# Altium integrated library Linear Technology Power Management Switching Regulator LT1074-LT8705.IntLib: 2252 symbols (part 94 of 148)
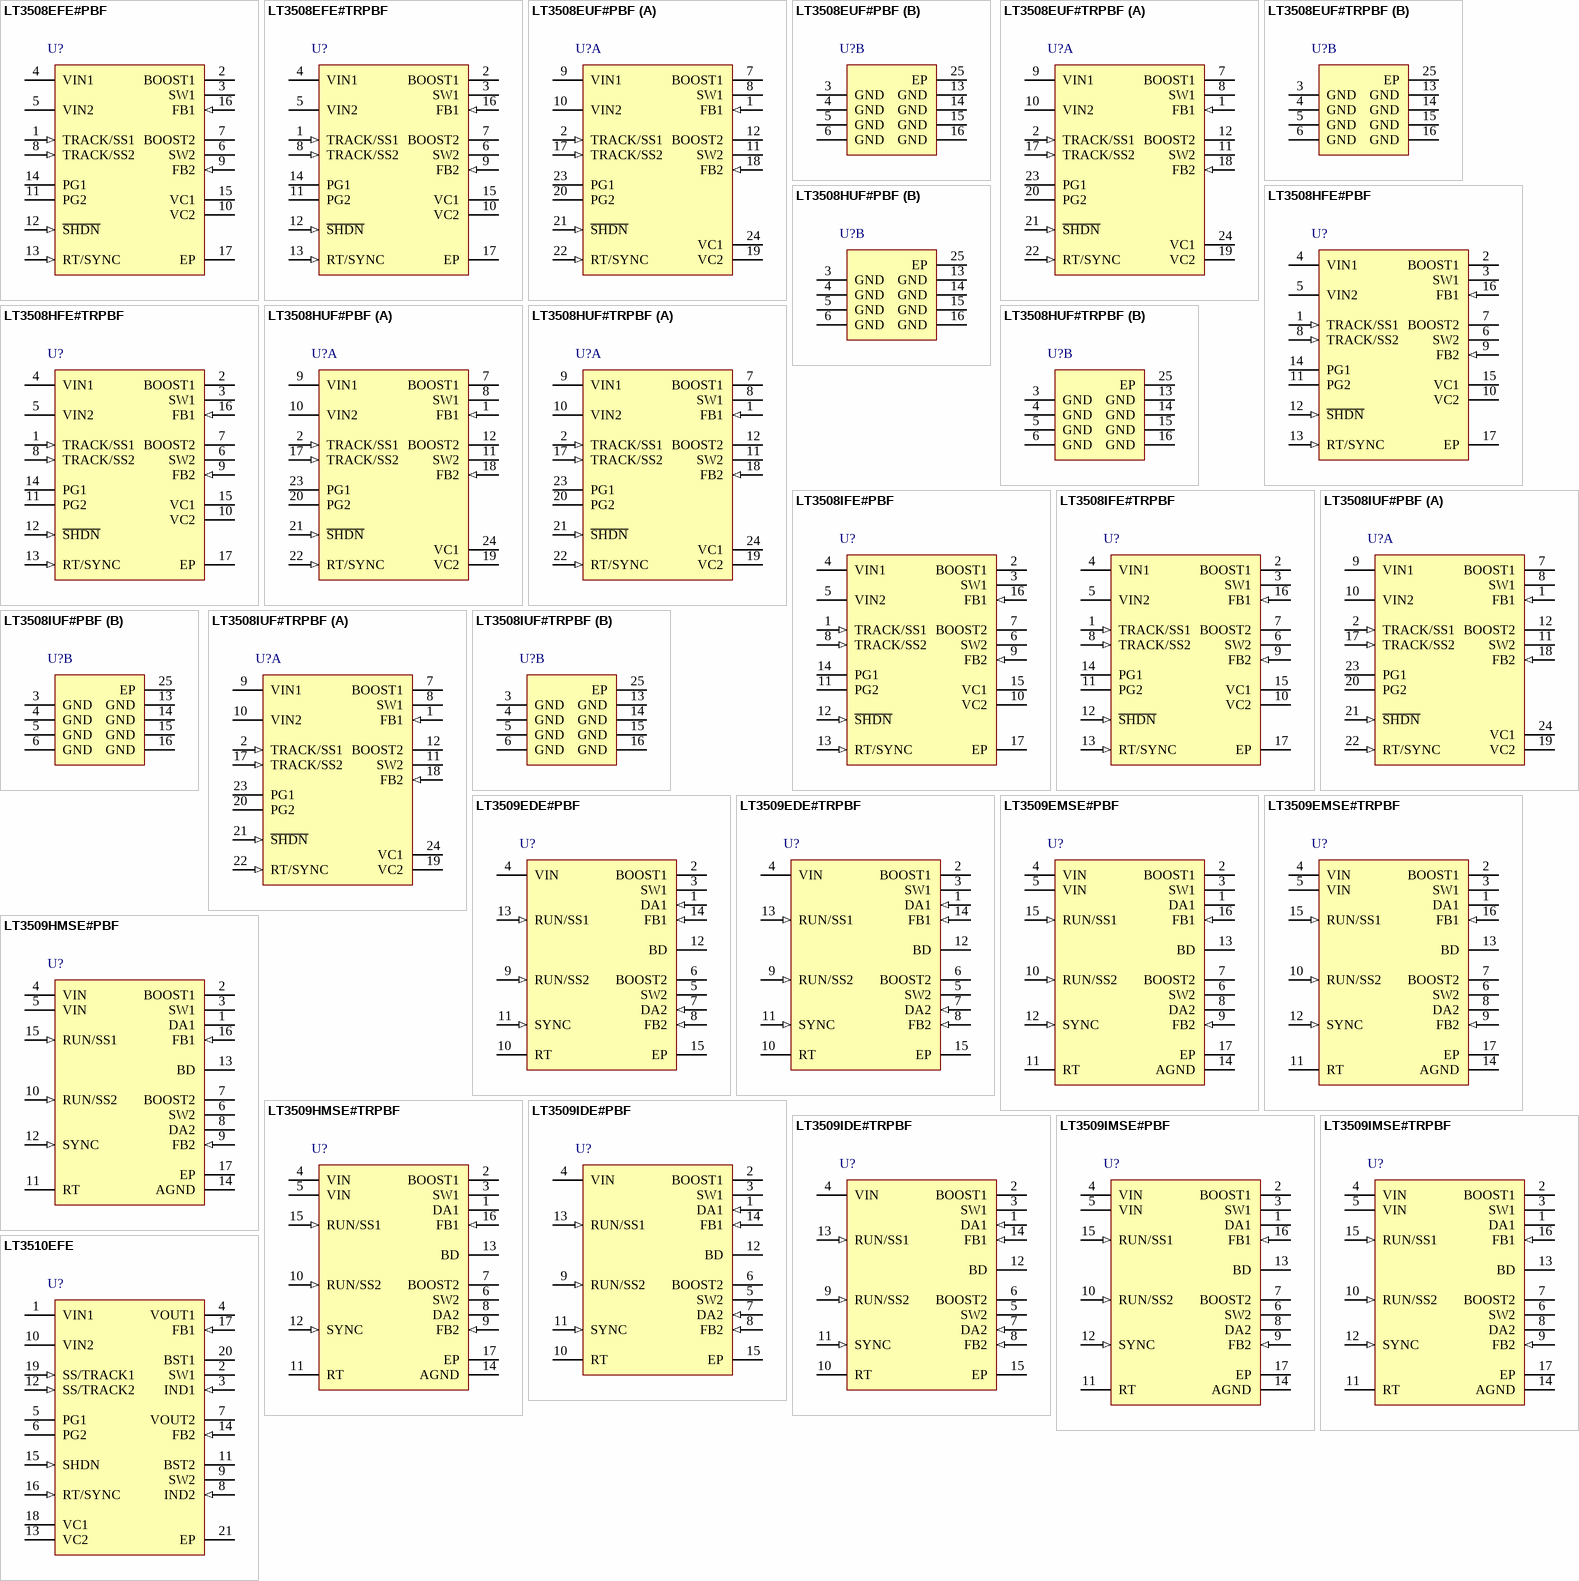
[diagram p164: symbols LT3508EFE#PBF to LT3510EFE]

## LT3509IMSE#TRPBF
designator U?
Dual 36 V, 700 mA Step-Down Regulator, 16-pin SOP (MSE-16-EDP), -40 to 125 degC, Pb-Free, Tape and Reel; Manufacturer: Linear Technology; PartNumber: LT3509IMSE#TRPBF; Frequency Adjust Range: 300kHz - 2.2MHz; Number of Outputs: 2; Over Voltage Protection(V): 60; DatasheetVersion: Rev. C; PackageVersion: Rev. F, 05/2013; PackageReference: MSE-16; PackageDescription: 16-Pin Plastic MSOP, Exposed Die Pad, Body 4.039 x 3 mm, Pitch 0.5 mm; Supplier 1: Digi-Key; Supplier Part Number 1: LT3509IMSE#TRPBF-ND; Supplier 2: Newark; Supplier Part Number 2: 46P5739; Packing: Tape and Reel; RoHS: TRUE; Mounting Technology: Surface Mount; ComponentLink1Description: Manufacturer URL; ComponentLink1URL: http://www.linear.com/; ComponentLink2Description: Datasheet; ComponentLink2URL: http://cds.linear.com/docs/en/datasheet/3509fc.pdf; ComponentLink3Description: Package Specification; ComponentLink3URL: http://cds.linear.com/docs/en/packaging/05081667_F_MSE16.pdf
footprint LT-MSE-16-EDP_N (SOP, 16-Leads, Body 4.1x3.1mm, Pitch 0.5mm, Thermal Pad 2.95x1.76mm, IPC Medium Density)
footprint LT-MSE-16-EDP_L (SOP, 16-Leads, Body 4.1x3.1mm, Pitch 0.5mm, Thermal Pad 2.95x1.76mm, IPC High Density)
footprint LT-MSE-16-EDP_M (SOP, 16-Leads, Body 4.1x3.1mm, Pitch 0.5mm, Thermal Pad 2.95x1.76mm, IPC Low Density)
pins: 1 DA1 "The DA pins are the anode connections for the catch diodes. These are connected internally to the exposed ground pad by current sensing resistors.", 2 BOOST1 "The BOOST pins are used to dynamically boost the power transistor base above VIN to minimize the voltage drop and power loss in the switch. These should be tied to the associated switch pins through the boost capacitors.", 3 SW1 (power) "The SW pins are the internal power switch outputs. These should be connected to the associated inductors, catch diode cathodes, and the boost capacitors.", 4 VIN (power) "The VIN pins supply power to the internal power switches and control circuitry. In the MSE package the VIN pins must be tied together. The input capacitor should be placed as close as possible to the supply pins.", 5 VIN (power) "The VIN pins supply power to the internal power switches and control circuitry. In the MSE package the VIN pins must be tied together. The input capacitor should be placed as close as possible to the supply pins.", 6 SW2 (power) "The SW pins are the internal power switch outputs. These should be connected to the associated inductors, catch diode cathodes, and the boost capacitors.", 7 BOOST2 "The BOOST pins are used to dynamically boost the power transistor base above VIN to minimize the voltage drop and power loss in the switch. These should be tied to the associated switch pins through the boost capacitors.", 8 DA2 "The DA pins are the anode connections for the catch diodes. These are connected internally to the exposed ground pad by current sensing resistors.", 9 FB2 (in) "The FB pins are used to set the regulated output voltage relative to the internal reference. These pins should be connected to a resistor divider from the regulated output such that the FB pin is at 0.8V when the output is (See Datasheet)", 10 RUN/SS2 (in) "The RUN/SS pins enable the associated regulator channel. If both pins are pulled to ground, the device will shut-down to a low power state. In the range 0.8V to 2V, the regulators are enabled but the peak switch current and (See Datasheet)", 11 RT "The RT pin is used to set the internal oscillator frequency. A 40.2k resistor from RT to ground results in a nominal frequency of 1MHz.", 12 SYNC (in) "The SYNC pin allows the switching frequency to be synchronized to a external clock. Choose RT resistor to set a free-run frequency at least 12% less than the external clock frequency for correct operation.", 13 BD (power) "The BD pin is common anode connection of the internal Schottky boost diodes. This provides the power for charging the BOOST capacitors. It should be locally bypassed for best performance.", 14 AGND (power) "This is the connected to the ground connection of the chip and may be used as a separate return for the low current control side components. It should not be used as the only ground connection or as a connection return for (See Datasheet)", 15 RUN/SS1 (in) "The RUN/SS pins enable the associated regulator channel. If both pins are pulled to ground, the device will shut-down to a low power state. In the range 0.8V to 2V, the regulators are enabled but the peak switch current and (See Datasheet)", 16 FB1 (in) "The FB pins are used to set the regulated output voltage relative to the internal reference. These pins should be connected to a resistor divider from the regulated output such that the FB pin is at 0.8V when the output is (See Datasheet)", 17 EP (power) "GND. This is the reference and supply ground for the regulator. The exposed pad must be soldered to the PCB and electrically connected to supply ground. Use a large ground plane and thermal vias to optimize thermal (See Datasheet)"

## LT3510EFE
designator U?
Monolithic Dual Tracking 2 A Step-Down Switching Regulator, 20-pin SOP (FE-20-EPV-CB), -40 to 125 degC; Manufacturer: Linear Technology; PartNumber: LT3510EFE; Frequency Adjust Range: 250kHz - 1.5MHz; Number of Outputs: 2; DatasheetVersion: Rev. E; PackageVersion: Rev. I, 05/2011; PackageReference: FE-20; PackageDescription: 20-Pin Plastic TSSOP, Body 6.5 x 4.4 mm, Pitch 0.65 mm; RoHS: FALSE; Mounting Technology: Surface Mount; ComponentLink1Description: Manufacturer URL; ComponentLink1URL: http://www.linear.com/; ComponentLink2Description: Datasheet; ComponentLink2URL: http://cds.linear.com/docs/en/datasheet/3510fe.pdf; ComponentLink3Description: Package Specification; ComponentLink3URL: http://cds.linear.com/docs/en/packaging/05081663__J_FE20(CB).pdf
footprint LT-FE-20-EPV-CB_N (SOP, 20-Leads, Body 6.6x4.5mm, Pitch 0.65mm, Thermal Pad 3.86x2.74mm, IPC Medium Density)
footprint LT-FE-20-EPV-CB_L (SOP, 20-Leads, Body 6.6x4.5mm, Pitch 0.65mm, Thermal Pad 3.86x2.74mm, IPC High Density)
footprint LT-FE-20-EPV-CB_M (SOP, 20-Leads, Body 6.6x4.5mm, Pitch 0.65mm, Thermal Pad 3.86x2.74mm, IPC Low Density)
pins: 1 VIN1 (power) "The VIN1 pin powers the internal control circuitry for both channels and is monitored by the undervoltage lockout comparator. The VIN1 pin is also connected to the collector of channel 1’s on-chip power NPN switch. Th(See Datasheet)", 2 SW1 "The SW pin is the emitter of the onchip power NPN. At switch-off, the inductor will drive this pin below ground with a high dV/dt. An external Schottky catch diode to ground, close to the SW pin and respective VIN decoupling (See Datasheet)", 3 IND1 (in) "The IND pin is the input to the on-chip sense resistor that measures current flowing in the inductor. When the current in the resistor exceeds the current dictated by the VC pin, the SW latch is held in reset, disabling the (See Datasheet)", 4 VOUT1 (power) "The VOUT pin is the output to the on-chip sense resistor that measures current flowing in the inductor. When the current in the resistor exceeds the current dictated by the VC pin, the SW latch is held in reset, disabling (See Datasheet)", 5 PG1 (oc) "The power good pin is an open-collector output that sinks current when the feedback falls below 90% of its nominal regulating voltage. For VIN1 above 1V, its output state remains true, although during shutdown, VIN1 (See Datasheet)", 6 PG2 (oc) "The power good pin is an open-collector output that sinks current when the feedback falls below 90% of its nominal regulating voltage. For VIN1 above 1V, its output state remains true, although during shutdown, VIN1 (See Datasheet)", 7 VOUT2 (power) "The VOUT pin is the output to the on-chip sense resistor that measures current flowing in the inductor. When the current in the resistor exceeds the current dictated by the VC pin, the SW latch is held in reset, disabling (See Datasheet)", 8 IND2 (in) "The IND pin is the input to the on-chip sense resistor that measures current flowing in the inductor. When the current in the resistor exceeds the current dictated by the VC pin, the SW latch is held in reset, disabling the (See Datasheet)", 9 SW2 "The SW pin is the emitter of the onchip power NPN. At switch-off, the inductor will drive this pin below ground with a high dV/dt. An external Schottky catch diode to ground, close to the SW pin and respective VIN decoupling (See Datasheet)", 10 VIN2 (power) "The VIN2 pin is the collector of channel 2’s on-chip power NPN switch. This pin is independent of VIN1 and may be connected to the same or a separate supply. In either case, high dI/dt edges are present and decoupling t(See Datasheet)", 11 BST2 "The BST pin provides a higher than VIN base drive to the power NPN to ensure a low switch drop. A comparator to VIN imposes a minimum off-time on the SW pin if the BST pin voltage drops too low. Forcing a SW off-time allows (See Datasheet)", 12 SS/TRACK2 (in) "The SS1/2 pins control the softstart and sequence of their respective outputs. A single capacitor from the SS pin to ground determines the output ramp rate. For soft-start and output tracking/sequencing details, see the (See Datasheet)", 13 VC2 "The VC pin is the output of the error amplifier and the input to the peak switch current  comparator. It is normally used for frequency compensation, but can also be used as a current clamp or control loop override. If the (See Datasheet)", 14 FB2 (in) "The FB pin is the negative input to the error amplifier. The output switches regulate this pin to 0.8V, with respect to the exposed ground pad. Bias current flows out of the FB pin.", 15 SHDN (in) "The shutdown pin is used to turn off both channels and control circuitry to reduce quiescent current to a typical value of 9uA. The accurate 1.28V threshold and input current hysteresis can be used as an undervoltage (See Datasheet)", 16 RT/SYNC (in) "This RT/SYNC pin provides two modes of setting the constant switch frequency.", 17 FB1 (in) "The FB pin is the negative input to the error amplifier. The output switches regulate this pin to 0.8V, with respect to the exposed ground pad. Bias current flows out of the FB pin.", 18 VC1 "The VC pin is the output of the error amplifier and the input to the peak switch current  comparator. It is normally used for frequency compensation, but can also be used as a current clamp or control loop override. If the (See Datasheet)", 19 SS/TRACK1 (in) "The SS1/2 pins control the softstart and sequence of their respective outputs. A single capacitor from the SS pin to ground determines the output ramp rate. For soft-start and output tracking/sequencing details, see the (See Datasheet)", 20 BST1 "The BST pin provides a higher than VIN base drive to the power NPN to ensure a low switch drop. A comparator to VIN imposes a minimum off-time on the SW pin if the BST pin voltage drops too low. Forcing a SW off-time allows (See Datasheet)", 21 EP (power) "GND. The Exposed Pad GND pin is the only ground connection for the device. The Exposed Pad should be soldered to a large copper area to reduce thermal resistance. The GND pin is common to both channels and also serves as (See Datasheet)"

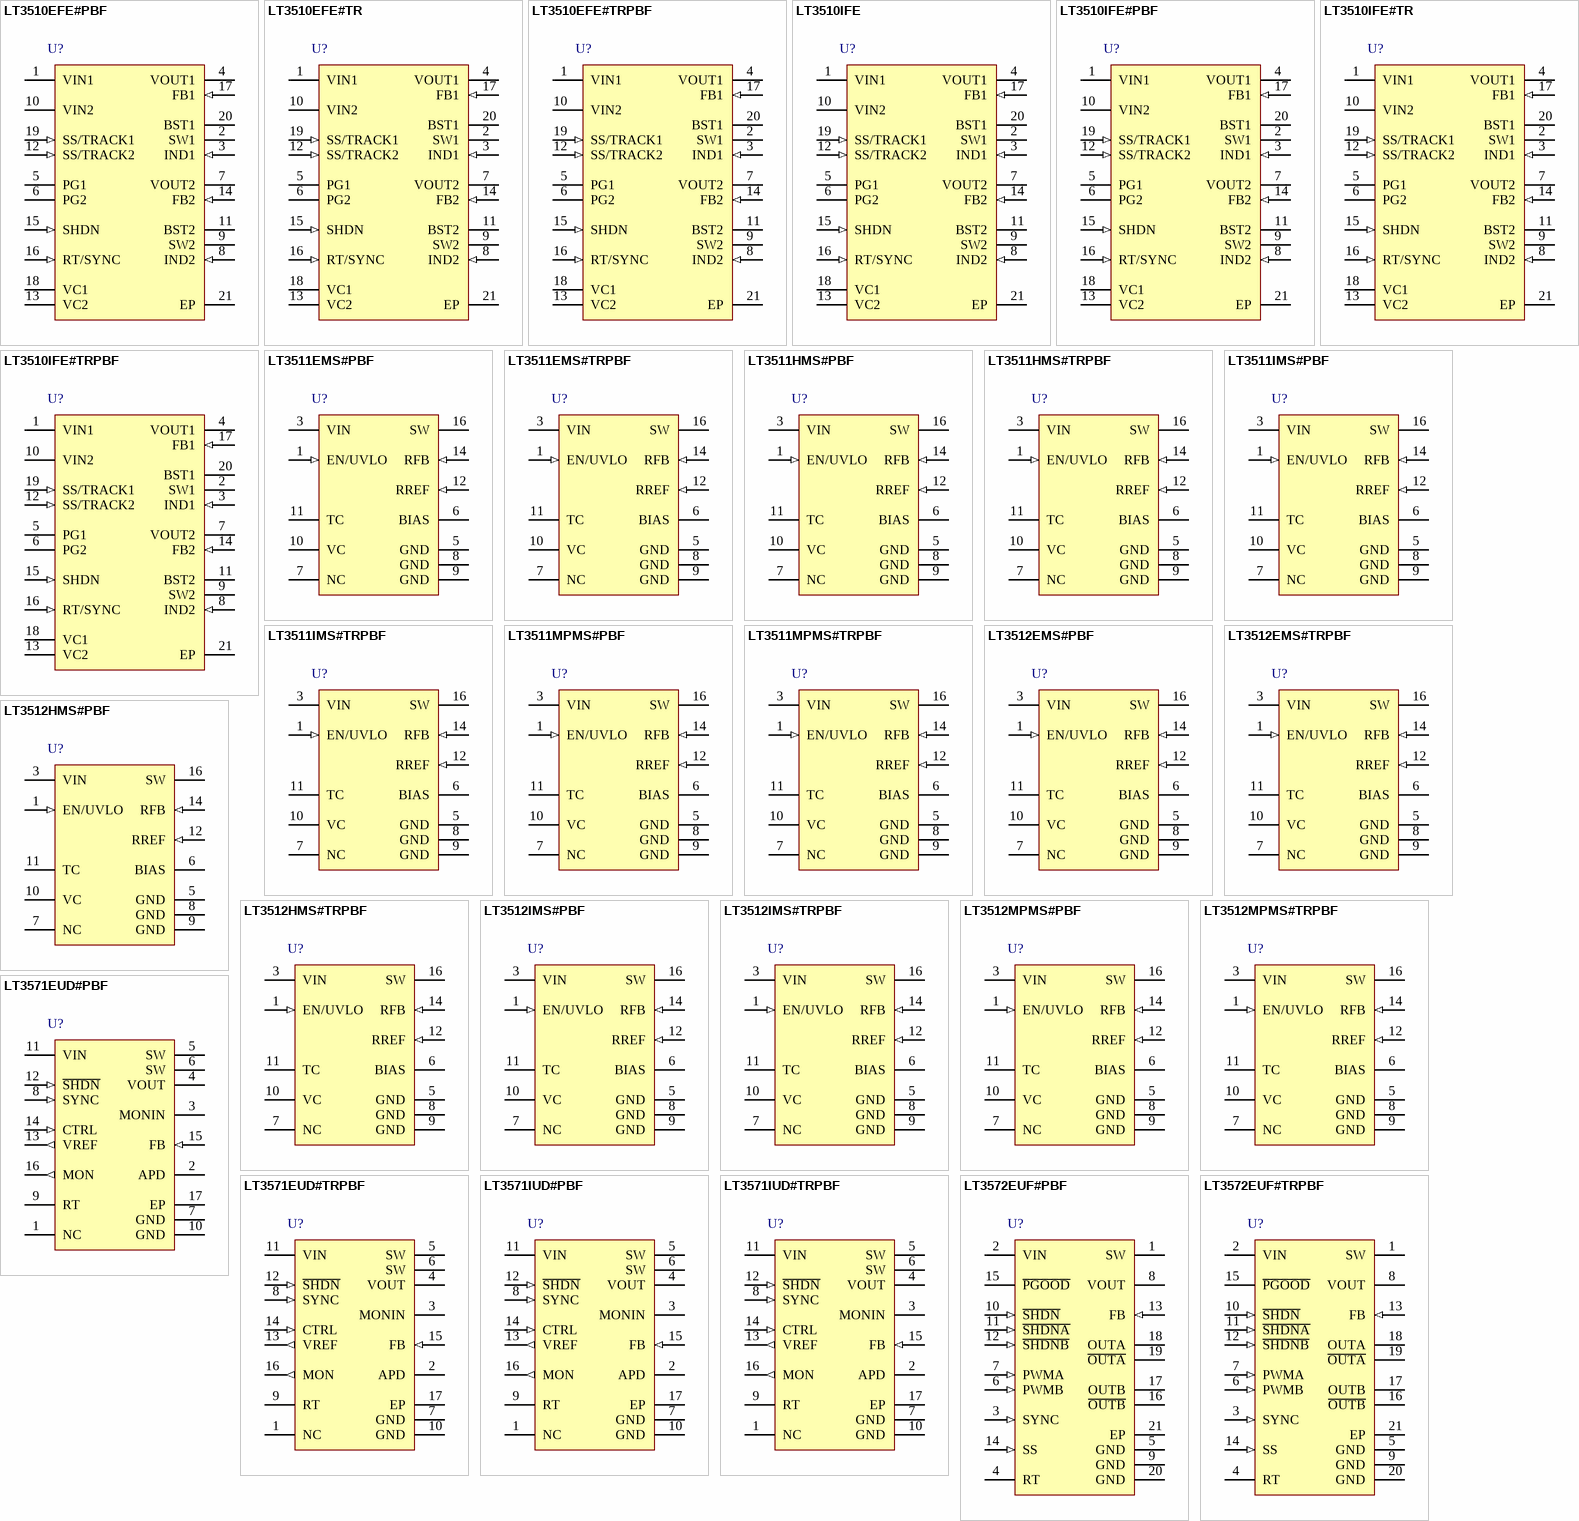
[diagram p47: symbols LT3510EFE#PBF to LT3572EUF#TRPBF]

## LT3510EFE#PBF
designator U?
Monolithic Dual Tracking 2 A Step-Down Switching Regulator, 20-pin SOP (FE-20-EPV-CB), -40 to 125 degC, Pb-Free; Manufacturer: Linear Technology; PartNumber: LT3510EFE#PBF; Frequency Adjust Range: 250kHz - 1.5MHz; Number of Outputs: 2; DatasheetVersion: Rev. E; PackageVersion: Rev. I, 05/2011; PackageReference: FE-20; PackageDescription: 20-Pin Plastic TSSOP, Body 6.5 x 4.4 mm, Pitch 0.65 mm; Supplier 1: Digi-Key; Supplier Part Number 1: LT3510EFE#PBF-ND; Supplier 2: Farnell; Supplier Part Number 2: 1663572; Supplier 3: Newark; Supplier Part Number 3: 58M1039; RoHS: TRUE; Mounting Technology: Surface Mount; ComponentLink1Description: Manufacturer URL; ComponentLink1URL: http://www.linear.com/; ComponentLink2Description: Datasheet; ComponentLink2URL: http://cds.linear.com/docs/en/datasheet/3510fe.pdf; ComponentLink3Description: Package Specification; ComponentLink3URL: http://cds.linear.com/docs/en/packaging/05081663__J_FE20(CB).pdf
footprint LT-FE-20-EPV-CB_N (SOP, 20-Leads, Body 6.6x4.5mm, Pitch 0.65mm, Thermal Pad 3.86x2.74mm, IPC Medium Density)
footprint LT-FE-20-EPV-CB_L (SOP, 20-Leads, Body 6.6x4.5mm, Pitch 0.65mm, Thermal Pad 3.86x2.74mm, IPC High Density)
footprint LT-FE-20-EPV-CB_M (SOP, 20-Leads, Body 6.6x4.5mm, Pitch 0.65mm, Thermal Pad 3.86x2.74mm, IPC Low Density)
pins: 1 VIN1 (power) "The VIN1 pin powers the internal control circuitry for both channels and is monitored by the undervoltage lockout comparator. The VIN1 pin is also connected to the collector of channel 1’s on-chip power NPN switch. Th(See Datasheet)", 2 SW1 "The SW pin is the emitter of the onchip power NPN. At switch-off, the inductor will drive this pin below ground with a high dV/dt. An external Schottky catch diode to ground, close to the SW pin and respective VIN decoupling (See Datasheet)", 3 IND1 (in) "The IND pin is the input to the on-chip sense resistor that measures current flowing in the inductor. When the current in the resistor exceeds the current dictated by the VC pin, the SW latch is held in reset, disabling the (See Datasheet)", 4 VOUT1 (power) "The VOUT pin is the output to the on-chip sense resistor that measures current flowing in the inductor. When the current in the resistor exceeds the current dictated by the VC pin, the SW latch is held in reset, disabling (See Datasheet)", 5 PG1 (oc) "The power good pin is an open-collector output that sinks current when the feedback falls below 90% of its nominal regulating voltage. For VIN1 above 1V, its output state remains true, although during shutdown, VIN1 (See Datasheet)", 6 PG2 (oc) "The power good pin is an open-collector output that sinks current when the feedback falls below 90% of its nominal regulating voltage. For VIN1 above 1V, its output state remains true, although during shutdown, VIN1 (See Datasheet)", 7 VOUT2 (power) "The VOUT pin is the output to the on-chip sense resistor that measures current flowing in the inductor. When the current in the resistor exceeds the current dictated by the VC pin, the SW latch is held in reset, disabling (See Datasheet)", 8 IND2 (in) "The IND pin is the input to the on-chip sense resistor that measures current flowing in the inductor. When the current in the resistor exceeds the current dictated by the VC pin, the SW latch is held in reset, disabling the (See Datasheet)", 9 SW2 "The SW pin is the emitter of the onchip power NPN. At switch-off, the inductor will drive this pin below ground with a high dV/dt. An external Schottky catch diode to ground, close to the SW pin and respective VIN decoupling (See Datasheet)", 10 VIN2 (power) "The VIN2 pin is the collector of channel 2’s on-chip power NPN switch. This pin is independent of VIN1 and may be connected to the same or a separate supply. In either case, high dI/dt edges are present and decoupling t(See Datasheet)", 11 BST2 "The BST pin provides a higher than VIN base drive to the power NPN to ensure a low switch drop. A comparator to VIN imposes a minimum off-time on the SW pin if the BST pin voltage drops too low. Forcing a SW off-time allows (See Datasheet)", 12 SS/TRACK2 (in) "The SS1/2 pins control the softstart and sequence of their respective outputs. A single capacitor from the SS pin to ground determines the output ramp rate. For soft-start and output tracking/sequencing details, see the (See Datasheet)", 13 VC2 "The VC pin is the output of the error amplifier and the input to the peak switch current  comparator. It is normally used for frequency compensation, but can also be used as a current clamp or control loop override. If the (See Datasheet)", 14 FB2 (in) "The FB pin is the negative input to the error amplifier. The output switches regulate this pin to 0.8V, with respect to the exposed ground pad. Bias current flows out of the FB pin.", 15 SHDN (in) "The shutdown pin is used to turn off both channels and control circuitry to reduce quiescent current to a typical value of 9uA. The accurate 1.28V threshold and input current hysteresis can be used as an undervoltage (See Datasheet)", 16 RT/SYNC (in) "This RT/SYNC pin provides two modes of setting the constant switch frequency.", 17 FB1 (in) "The FB pin is the negative input to the error amplifier. The output switches regulate this pin to 0.8V, with respect to the exposed ground pad. Bias current flows out of the FB pin.", 18 VC1 "The VC pin is the output of the error amplifier and the input to the peak switch current  comparator. It is normally used for frequency compensation, but can also be used as a current clamp or control loop override. If the (See Datasheet)", 19 SS/TRACK1 (in) "The SS1/2 pins control the softstart and sequence of their respective outputs. A single capacitor from the SS pin to ground determines the output ramp rate. For soft-start and output tracking/sequencing details, see the (See Datasheet)", 20 BST1 "The BST pin provides a higher than VIN base drive to the power NPN to ensure a low switch drop. A comparator to VIN imposes a minimum off-time on the SW pin if the BST pin voltage drops too low. Forcing a SW off-time allows (See Datasheet)", 21 EP (power) "GND. The Exposed Pad GND pin is the only ground connection for the device. The Exposed Pad should be soldered to a large copper area to reduce thermal resistance. The GND pin is common to both channels and also serves as (See Datasheet)"

## LT3510EFE#TR
designator U?
Monolithic Dual Tracking 2 A Step-Down Switching Regulator, 20-pin SOP (FE-20-EPV-CB), -40 to 125 degC, Tape and Reel; Manufacturer: Linear Technology; PartNumber: LT3510EFE#TR; Frequency Adjust Range: 250kHz - 1.5MHz; Number of Outputs: 2; DatasheetVersion: Rev. E; PackageVersion: Rev. I, 05/2011; PackageReference: FE-20; PackageDescription: 20-Pin Plastic TSSOP, Body 6.5 x 4.4 mm, Pitch 0.65 mm; Packing: Tape and Reel; RoHS: FALSE; Mounting Technology: Surface Mount; ComponentLink1Description: Manufacturer URL; ComponentLink1URL: http://www.linear.com/; ComponentLink2Description: Datasheet; ComponentLink2URL: http://cds.linear.com/docs/en/datasheet/3510fe.pdf; ComponentLink3Description: Package Specification; ComponentLink3URL: http://cds.linear.com/docs/en/packaging/05081663__J_FE20(CB).pdf
footprint LT-FE-20-EPV-CB_N (SOP, 20-Leads, Body 6.6x4.5mm, Pitch 0.65mm, Thermal Pad 3.86x2.74mm, IPC Medium Density)
footprint LT-FE-20-EPV-CB_L (SOP, 20-Leads, Body 6.6x4.5mm, Pitch 0.65mm, Thermal Pad 3.86x2.74mm, IPC High Density)
footprint LT-FE-20-EPV-CB_M (SOP, 20-Leads, Body 6.6x4.5mm, Pitch 0.65mm, Thermal Pad 3.86x2.74mm, IPC Low Density)
pins: 1 VIN1 (power) "The VIN1 pin powers the internal control circuitry for both channels and is monitored by the undervoltage lockout comparator. The VIN1 pin is also connected to the collector of channel 1’s on-chip power NPN switch. Th(See Datasheet)", 2 SW1 "The SW pin is the emitter of the onchip power NPN. At switch-off, the inductor will drive this pin below ground with a high dV/dt. An external Schottky catch diode to ground, close to the SW pin and respective VIN decoupling (See Datasheet)", 3 IND1 (in) "The IND pin is the input to the on-chip sense resistor that measures current flowing in the inductor. When the current in the resistor exceeds the current dictated by the VC pin, the SW latch is held in reset, disabling the (See Datasheet)", 4 VOUT1 (power) "The VOUT pin is the output to the on-chip sense resistor that measures current flowing in the inductor. When the current in the resistor exceeds the current dictated by the VC pin, the SW latch is held in reset, disabling (See Datasheet)", 5 PG1 (oc) "The power good pin is an open-collector output that sinks current when the feedback falls below 90% of its nominal regulating voltage. For VIN1 above 1V, its output state remains true, although during shutdown, VIN1 (See Datasheet)", 6 PG2 (oc) "The power good pin is an open-collector output that sinks current when the feedback falls below 90% of its nominal regulating voltage. For VIN1 above 1V, its output state remains true, although during shutdown, VIN1 (See Datasheet)", 7 VOUT2 (power) "The VOUT pin is the output to the on-chip sense resistor that measures current flowing in the inductor. When the current in the resistor exceeds the current dictated by the VC pin, the SW latch is held in reset, disabling (See Datasheet)", 8 IND2 (in) "The IND pin is the input to the on-chip sense resistor that measures current flowing in the inductor. When the current in the resistor exceeds the current dictated by the VC pin, the SW latch is held in reset, disabling the (See Datasheet)", 9 SW2 "The SW pin is the emitter of the onchip power NPN. At switch-off, the inductor will drive this pin below ground with a high dV/dt. An external Schottky catch diode to ground, close to the SW pin and respective VIN decoupling (See Datasheet)", 10 VIN2 (power) "The VIN2 pin is the collector of channel 2’s on-chip power NPN switch. This pin is independent of VIN1 and may be connected to the same or a separate supply. In either case, high dI/dt edges are present and decoupling t(See Datasheet)", 11 BST2 "The BST pin provides a higher than VIN base drive to the power NPN to ensure a low switch drop. A comparator to VIN imposes a minimum off-time on the SW pin if the BST pin voltage drops too low. Forcing a SW off-time allows (See Datasheet)", 12 SS/TRACK2 (in) "The SS1/2 pins control the softstart and sequence of their respective outputs. A single capacitor from the SS pin to ground determines the output ramp rate. For soft-start and output tracking/sequencing details, see the (See Datasheet)", 13 VC2 "The VC pin is the output of the error amplifier and the input to the peak switch current  comparator. It is normally used for frequency compensation, but can also be used as a current clamp or control loop override. If the (See Datasheet)", 14 FB2 (in) "The FB pin is the negative input to the error amplifier. The output switches regulate this pin to 0.8V, with respect to the exposed ground pad. Bias current flows out of the FB pin.", 15 SHDN (in) "The shutdown pin is used to turn off both channels and control circuitry to reduce quiescent current to a typical value of 9uA. The accurate 1.28V threshold and input current hysteresis can be used as an undervoltage (See Datasheet)", 16 RT/SYNC (in) "This RT/SYNC pin provides two modes of setting the constant switch frequency.", 17 FB1 (in) "The FB pin is the negative input to the error amplifier. The output switches regulate this pin to 0.8V, with respect to the exposed ground pad. Bias current flows out of the FB pin.", 18 VC1 "The VC pin is the output of the error amplifier and the input to the peak switch current  comparator. It is normally used for frequency compensation, but can also be used as a current clamp or control loop override. If the (See Datasheet)", 19 SS/TRACK1 (in) "The SS1/2 pins control the softstart and sequence of their respective outputs. A single capacitor from the SS pin to ground determines the output ramp rate. For soft-start and output tracking/sequencing details, see the (See Datasheet)", 20 BST1 "The BST pin provides a higher than VIN base drive to the power NPN to ensure a low switch drop. A comparator to VIN imposes a minimum off-time on the SW pin if the BST pin voltage drops too low. Forcing a SW off-time allows (See Datasheet)", 21 EP (power) "GND. The Exposed Pad GND pin is the only ground connection for the device. The Exposed Pad should be soldered to a large copper area to reduce thermal resistance. The GND pin is common to both channels and also serves as (See Datasheet)"

## LT3510EFE#TRPBF
designator U?
Monolithic Dual Tracking 2 A Step-Down Switching Regulator, 20-pin SOP (FE-20-EPV-CB), -40 to 125 degC, Pb-Free, Tape and Reel; Manufacturer: Linear Technology; PartNumber: LT3510EFE#TRPBF; Frequency Adjust Range: 250kHz - 1.5MHz; Number of Outputs: 2; DatasheetVersion: Rev. E; PackageVersion: Rev. I, 05/2011; PackageReference: FE-20; PackageDescription: 20-Pin Plastic TSSOP, Body 6.5 x 4.4 mm, Pitch 0.65 mm; Supplier 1: Digi-Key; Supplier Part Number 1: LT3510EFE#TRPBF-ND; Supplier 2: Newark; Supplier Part Number 2: 58M1041; Packing: Tape and Reel; RoHS: TRUE; Mounting Technology: Surface Mount; ComponentLink1Description: Manufacturer URL; ComponentLink1URL: http://www.linear.com/; ComponentLink2Description: Datasheet; ComponentLink2URL: http://cds.linear.com/docs/en/datasheet/3510fe.pdf; ComponentLink3Description: Package Specification; ComponentLink3URL: http://cds.linear.com/docs/en/packaging/05081663__J_FE20(CB).pdf
footprint LT-FE-20-EPV-CB_N (SOP, 20-Leads, Body 6.6x4.5mm, Pitch 0.65mm, Thermal Pad 3.86x2.74mm, IPC Medium Density)
footprint LT-FE-20-EPV-CB_L (SOP, 20-Leads, Body 6.6x4.5mm, Pitch 0.65mm, Thermal Pad 3.86x2.74mm, IPC High Density)
footprint LT-FE-20-EPV-CB_M (SOP, 20-Leads, Body 6.6x4.5mm, Pitch 0.65mm, Thermal Pad 3.86x2.74mm, IPC Low Density)
pins: 1 VIN1 (power) "The VIN1 pin powers the internal control circuitry for both channels and is monitored by the undervoltage lockout comparator. The VIN1 pin is also connected to the collector of channel 1’s on-chip power NPN switch. Th(See Datasheet)", 2 SW1 "The SW pin is the emitter of the onchip power NPN. At switch-off, the inductor will drive this pin below ground with a high dV/dt. An external Schottky catch diode to ground, close to the SW pin and respective VIN decoupling (See Datasheet)", 3 IND1 (in) "The IND pin is the input to the on-chip sense resistor that measures current flowing in the inductor. When the current in the resistor exceeds the current dictated by the VC pin, the SW latch is held in reset, disabling the (See Datasheet)", 4 VOUT1 (power) "The VOUT pin is the output to the on-chip sense resistor that measures current flowing in the inductor. When the current in the resistor exceeds the current dictated by the VC pin, the SW latch is held in reset, disabling (See Datasheet)", 5 PG1 (oc) "The power good pin is an open-collector output that sinks current when the feedback falls below 90% of its nominal regulating voltage. For VIN1 above 1V, its output state remains true, although during shutdown, VIN1 (See Datasheet)", 6 PG2 (oc) "The power good pin is an open-collector output that sinks current when the feedback falls below 90% of its nominal regulating voltage. For VIN1 above 1V, its output state remains true, although during shutdown, VIN1 (See Datasheet)", 7 VOUT2 (power) "The VOUT pin is the output to the on-chip sense resistor that measures current flowing in the inductor. When the current in the resistor exceeds the current dictated by the VC pin, the SW latch is held in reset, disabling (See Datasheet)", 8 IND2 (in) "The IND pin is the input to the on-chip sense resistor that measures current flowing in the inductor. When the current in the resistor exceeds the current dictated by the VC pin, the SW latch is held in reset, disabling the (See Datasheet)", 9 SW2 "The SW pin is the emitter of the onchip power NPN. At switch-off, the inductor will drive this pin below ground with a high dV/dt. An external Schottky catch diode to ground, close to the SW pin and respective VIN decoupling (See Datasheet)", 10 VIN2 (power) "The VIN2 pin is the collector of channel 2’s on-chip power NPN switch. This pin is independent of VIN1 and may be connected to the same or a separate supply. In either case, high dI/dt edges are present and decoupling t(See Datasheet)", 11 BST2 "The BST pin provides a higher than VIN base drive to the power NPN to ensure a low switch drop. A comparator to VIN imposes a minimum off-time on the SW pin if the BST pin voltage drops too low. Forcing a SW off-time allows (See Datasheet)", 12 SS/TRACK2 (in) "The SS1/2 pins control the softstart and sequence of their respective outputs. A single capacitor from the SS pin to ground determines the output ramp rate. For soft-start and output tracking/sequencing details, see the (See Datasheet)", 13 VC2 "The VC pin is the output of the error amplifier and the input to the peak switch current  comparator. It is normally used for frequency compensation, but can also be used as a current clamp or control loop override. If the (See Datasheet)", 14 FB2 (in) "The FB pin is the negative input to the error amplifier. The output switches regulate this pin to 0.8V, with respect to the exposed ground pad. Bias current flows out of the FB pin.", 15 SHDN (in) "The shutdown pin is used to turn off both channels and control circuitry to reduce quiescent current to a typical value of 9uA. The accurate 1.28V threshold and input current hysteresis can be used as an undervoltage (See Datasheet)", 16 RT/SYNC (in) "This RT/SYNC pin provides two modes of setting the constant switch frequency.", 17 FB1 (in) "The FB pin is the negative input to the error amplifier. The output switches regulate this pin to 0.8V, with respect to the exposed ground pad. Bias current flows out of the FB pin.", 18 VC1 "The VC pin is the output of the error amplifier and the input to the peak switch current  comparator. It is normally used for frequency compensation, but can also be used as a current clamp or control loop override. If the (See Datasheet)", 19 SS/TRACK1 (in) "The SS1/2 pins control the softstart and sequence of their respective outputs. A single capacitor from the SS pin to ground determines the output ramp rate. For soft-start and output tracking/sequencing details, see the (See Datasheet)", 20 BST1 "The BST pin provides a higher than VIN base drive to the power NPN to ensure a low switch drop. A comparator to VIN imposes a minimum off-time on the SW pin if the BST pin voltage drops too low. Forcing a SW off-time allows (See Datasheet)", 21 EP (power) "GND. The Exposed Pad GND pin is the only ground connection for the device. The Exposed Pad should be soldered to a large copper area to reduce thermal resistance. The GND pin is common to both channels and also serves as (See Datasheet)"

## LT3510IFE
designator U?
Monolithic Dual Tracking 2 A Step-Down Switching Regulator, 20-pin SOP (FE-20-EPV-CB), -40 to 125 degC; Manufacturer: Linear Technology; PartNumber: LT3510IFE; Frequency Adjust Range: 250kHz - 1.5MHz; Number of Outputs: 2; DatasheetVersion: Rev. E; PackageVersion: Rev. I, 05/2011; PackageReference: FE-20; PackageDescription: 20-Pin Plastic TSSOP, Body 6.5 x 4.4 mm, Pitch 0.65 mm; RoHS: FALSE; Mounting Technology: Surface Mount; ComponentLink1Description: Manufacturer URL; ComponentLink1URL: http://www.linear.com/; ComponentLink2Description: Datasheet; ComponentLink2URL: http://cds.linear.com/docs/en/datasheet/3510fe.pdf; ComponentLink3Description: Package Specification; ComponentLink3URL: http://cds.linear.com/docs/en/packaging/05081663__J_FE20(CB).pdf
footprint LT-FE-20-EPV-CB_N (SOP, 20-Leads, Body 6.6x4.5mm, Pitch 0.65mm, Thermal Pad 3.86x2.74mm, IPC Medium Density)
footprint LT-FE-20-EPV-CB_L (SOP, 20-Leads, Body 6.6x4.5mm, Pitch 0.65mm, Thermal Pad 3.86x2.74mm, IPC High Density)
footprint LT-FE-20-EPV-CB_M (SOP, 20-Leads, Body 6.6x4.5mm, Pitch 0.65mm, Thermal Pad 3.86x2.74mm, IPC Low Density)
pins: 1 VIN1 (power) "The VIN1 pin powers the internal control circuitry for both channels and is monitored by the undervoltage lockout comparator. The VIN1 pin is also connected to the collector of channel 1’s on-chip power NPN switch. Th(See Datasheet)", 2 SW1 "The SW pin is the emitter of the onchip power NPN. At switch-off, the inductor will drive this pin below ground with a high dV/dt. An external Schottky catch diode to ground, close to the SW pin and respective VIN decoupling (See Datasheet)", 3 IND1 (in) "The IND pin is the input to the on-chip sense resistor that measures current flowing in the inductor. When the current in the resistor exceeds the current dictated by the VC pin, the SW latch is held in reset, disabling the (See Datasheet)", 4 VOUT1 (power) "The VOUT pin is the output to the on-chip sense resistor that measures current flowing in the inductor. When the current in the resistor exceeds the current dictated by the VC pin, the SW latch is held in reset, disabling (See Datasheet)", 5 PG1 (oc) "The power good pin is an open-collector output that sinks current when the feedback falls below 90% of its nominal regulating voltage. For VIN1 above 1V, its output state remains true, although during shutdown, VIN1 (See Datasheet)", 6 PG2 (oc) "The power good pin is an open-collector output that sinks current when the feedback falls below 90% of its nominal regulating voltage. For VIN1 above 1V, its output state remains true, although during shutdown, VIN1 (See Datasheet)", 7 VOUT2 (power) "The VOUT pin is the output to the on-chip sense resistor that measures current flowing in the inductor. When the current in the resistor exceeds the current dictated by the VC pin, the SW latch is held in reset, disabling (See Datasheet)", 8 IND2 (in) "The IND pin is the input to the on-chip sense resistor that measures current flowing in the inductor. When the current in the resistor exceeds the current dictated by the VC pin, the SW latch is held in reset, disabling the (See Datasheet)", 9 SW2 "The SW pin is the emitter of the onchip power NPN. At switch-off, the inductor will drive this pin below ground with a high dV/dt. An external Schottky catch diode to ground, close to the SW pin and respective VIN decoupling (See Datasheet)", 10 VIN2 (power) "The VIN2 pin is the collector of channel 2’s on-chip power NPN switch. This pin is independent of VIN1 and may be connected to the same or a separate supply. In either case, high dI/dt edges are present and decoupling t(See Datasheet)", 11 BST2 "The BST pin provides a higher than VIN base drive to the power NPN to ensure a low switch drop. A comparator to VIN imposes a minimum off-time on the SW pin if the BST pin voltage drops too low. Forcing a SW off-time allows (See Datasheet)", 12 SS/TRACK2 (in) "The SS1/2 pins control the softstart and sequence of their respective outputs. A single capacitor from the SS pin to ground determines the output ramp rate. For soft-start and output tracking/sequencing details, see the (See Datasheet)", 13 VC2 "The VC pin is the output of the error amplifier and the input to the peak switch current  comparator. It is normally used for frequency compensation, but can also be used as a current clamp or control loop override. If the (See Datasheet)", 14 FB2 (in) "The FB pin is the negative input to the error amplifier. The output switches regulate this pin to 0.8V, with respect to the exposed ground pad. Bias current flows out of the FB pin.", 15 SHDN (in) "The shutdown pin is used to turn off both channels and control circuitry to reduce quiescent current to a typical value of 9uA. The accurate 1.28V threshold and input current hysteresis can be used as an undervoltage (See Datasheet)", 16 RT/SYNC (in) "This RT/SYNC pin provides two modes of setting the constant switch frequency.", 17 FB1 (in) "The FB pin is the negative input to the error amplifier. The output switches regulate this pin to 0.8V, with respect to the exposed ground pad. Bias current flows out of the FB pin.", 18 VC1 "The VC pin is the output of the error amplifier and the input to the peak switch current  comparator. It is normally used for frequency compensation, but can also be used as a current clamp or control loop override. If the (See Datasheet)", 19 SS/TRACK1 (in) "The SS1/2 pins control the softstart and sequence of their respective outputs. A single capacitor from the SS pin to ground determines the output ramp rate. For soft-start and output tracking/sequencing details, see the (See Datasheet)", 20 BST1 "The BST pin provides a higher than VIN base drive to the power NPN to ensure a low switch drop. A comparator to VIN imposes a minimum off-time on the SW pin if the BST pin voltage drops too low. Forcing a SW off-time allows (See Datasheet)", 21 EP (power) "GND. The Exposed Pad GND pin is the only ground connection for the device. The Exposed Pad should be soldered to a large copper area to reduce thermal resistance. The GND pin is common to both channels and also serves as (See Datasheet)"

## LT3510IFE#PBF
designator U?
Monolithic Dual Tracking 2 A Step-Down Switching Regulator, 20-pin SOP (FE-20-EPV-CB), -40 to 125 degC, Pb-Free; Manufacturer: Linear Technology; PartNumber: LT3510IFE#PBF; Frequency Adjust Range: 250kHz - 1.5MHz; Number of Outputs: 2; DatasheetVersion: Rev. E; PackageVersion: Rev. I, 05/2011; PackageReference: FE-20; PackageDescription: 20-Pin Plastic TSSOP, Body 6.5 x 4.4 mm, Pitch 0.65 mm; Supplier 1: Digi-Key; Supplier Part Number 1: LT3510IFE#PBF-ND; Supplier 2: Farnell; Supplier Part Number 2: 2294934; Supplier 3: Newark; Supplier Part Number 3: 58M1043; RoHS: TRUE; Mounting Technology: Surface Mount; ComponentLink1Description: Manufacturer URL; ComponentLink1URL: http://www.linear.com/; ComponentLink2Description: Datasheet; ComponentLink2URL: http://cds.linear.com/docs/en/datasheet/3510fe.pdf; ComponentLink3Description: Package Specification; ComponentLink3URL: http://cds.linear.com/docs/en/packaging/05081663__J_FE20(CB).pdf
footprint LT-FE-20-EPV-CB_N (SOP, 20-Leads, Body 6.6x4.5mm, Pitch 0.65mm, Thermal Pad 3.86x2.74mm, IPC Medium Density)
footprint LT-FE-20-EPV-CB_L (SOP, 20-Leads, Body 6.6x4.5mm, Pitch 0.65mm, Thermal Pad 3.86x2.74mm, IPC High Density)
footprint LT-FE-20-EPV-CB_M (SOP, 20-Leads, Body 6.6x4.5mm, Pitch 0.65mm, Thermal Pad 3.86x2.74mm, IPC Low Density)
pins: 1 VIN1 (power) "The VIN1 pin powers the internal control circuitry for both channels and is monitored by the undervoltage lockout comparator. The VIN1 pin is also connected to the collector of channel 1’s on-chip power NPN switch. Th(See Datasheet)", 2 SW1 "The SW pin is the emitter of the onchip power NPN. At switch-off, the inductor will drive this pin below ground with a high dV/dt. An external Schottky catch diode to ground, close to the SW pin and respective VIN decoupling (See Datasheet)", 3 IND1 (in) "The IND pin is the input to the on-chip sense resistor that measures current flowing in the inductor. When the current in the resistor exceeds the current dictated by the VC pin, the SW latch is held in reset, disabling the (See Datasheet)", 4 VOUT1 (power) "The VOUT pin is the output to the on-chip sense resistor that measures current flowing in the inductor. When the current in the resistor exceeds the current dictated by the VC pin, the SW latch is held in reset, disabling (See Datasheet)", 5 PG1 (oc) "The power good pin is an open-collector output that sinks current when the feedback falls below 90% of its nominal regulating voltage. For VIN1 above 1V, its output state remains true, although during shutdown, VIN1 (See Datasheet)", 6 PG2 (oc) "The power good pin is an open-collector output that sinks current when the feedback falls below 90% of its nominal regulating voltage. For VIN1 above 1V, its output state remains true, although during shutdown, VIN1 (See Datasheet)", 7 VOUT2 (power) "The VOUT pin is the output to the on-chip sense resistor that measures current flowing in the inductor. When the current in the resistor exceeds the current dictated by the VC pin, the SW latch is held in reset, disabling (See Datasheet)", 8 IND2 (in) "The IND pin is the input to the on-chip sense resistor that measures current flowing in the inductor. When the current in the resistor exceeds the current dictated by the VC pin, the SW latch is held in reset, disabling the (See Datasheet)", 9 SW2 "The SW pin is the emitter of the onchip power NPN. At switch-off, the inductor will drive this pin below ground with a high dV/dt. An external Schottky catch diode to ground, close to the SW pin and respective VIN decoupling (See Datasheet)", 10 VIN2 (power) "The VIN2 pin is the collector of channel 2’s on-chip power NPN switch. This pin is independent of VIN1 and may be connected to the same or a separate supply. In either case, high dI/dt edges are present and decoupling t(See Datasheet)", 11 BST2 "The BST pin provides a higher than VIN base drive to the power NPN to ensure a low switch drop. A comparator to VIN imposes a minimum off-time on the SW pin if the BST pin voltage drops too low. Forcing a SW off-time allows (See Datasheet)", 12 SS/TRACK2 (in) "The SS1/2 pins control the softstart and sequence of their respective outputs. A single capacitor from the SS pin to ground determines the output ramp rate. For soft-start and output tracking/sequencing details, see the (See Datasheet)", 13 VC2 "The VC pin is the output of the error amplifier and the input to the peak switch current  comparator. It is normally used for frequency compensation, but can also be used as a current clamp or control loop override. If the (See Datasheet)", 14 FB2 (in) "The FB pin is the negative input to the error amplifier. The output switches regulate this pin to 0.8V, with respect to the exposed ground pad. Bias current flows out of the FB pin.", 15 SHDN (in) "The shutdown pin is used to turn off both channels and control circuitry to reduce quiescent current to a typical value of 9uA. The accurate 1.28V threshold and input current hysteresis can be used as an undervoltage (See Datasheet)", 16 RT/SYNC (in) "This RT/SYNC pin provides two modes of setting the constant switch frequency.", 17 FB1 (in) "The FB pin is the negative input to the error amplifier. The output switches regulate this pin to 0.8V, with respect to the exposed ground pad. Bias current flows out of the FB pin.", 18 VC1 "The VC pin is the output of the error amplifier and the input to the peak switch current  comparator. It is normally used for frequency compensation, but can also be used as a current clamp or control loop override. If the (See Datasheet)", 19 SS/TRACK1 (in) "The SS1/2 pins control the softstart and sequence of their respective outputs. A single capacitor from the SS pin to ground determines the output ramp rate. For soft-start and output tracking/sequencing details, see the (See Datasheet)", 20 BST1 "The BST pin provides a higher than VIN base drive to the power NPN to ensure a low switch drop. A comparator to VIN imposes a minimum off-time on the SW pin if the BST pin voltage drops too low. Forcing a SW off-time allows (See Datasheet)", 21 EP (power) "GND. The Exposed Pad GND pin is the only ground connection for the device. The Exposed Pad should be soldered to a large copper area to reduce thermal resistance. The GND pin is common to both channels and also serves as (See Datasheet)"

## LT3510IFE#TR
designator U?
Monolithic Dual Tracking 2 A Step-Down Switching Regulator, 20-pin SOP (FE-20-EPV-CB), -40 to 125 degC, Tape and Reel; Manufacturer: Linear Technology; PartNumber: LT3510IFE#TR; Frequency Adjust Range: 250kHz - 1.5MHz; Number of Outputs: 2; DatasheetVersion: Rev. E; PackageVersion: Rev. I, 05/2011; PackageReference: FE-20; PackageDescription: 20-Pin Plastic TSSOP, Body 6.5 x 4.4 mm, Pitch 0.65 mm; Packing: Tape and Reel; RoHS: FALSE; Mounting Technology: Surface Mount; ComponentLink1Description: Manufacturer URL; ComponentLink1URL: http://www.linear.com/; ComponentLink2Description: Datasheet; ComponentLink2URL: http://cds.linear.com/docs/en/datasheet/3510fe.pdf; ComponentLink3Description: Package Specification; ComponentLink3URL: http://cds.linear.com/docs/en/packaging/05081663__J_FE20(CB).pdf
footprint LT-FE-20-EPV-CB_N (SOP, 20-Leads, Body 6.6x4.5mm, Pitch 0.65mm, Thermal Pad 3.86x2.74mm, IPC Medium Density)
footprint LT-FE-20-EPV-CB_L (SOP, 20-Leads, Body 6.6x4.5mm, Pitch 0.65mm, Thermal Pad 3.86x2.74mm, IPC High Density)
footprint LT-FE-20-EPV-CB_M (SOP, 20-Leads, Body 6.6x4.5mm, Pitch 0.65mm, Thermal Pad 3.86x2.74mm, IPC Low Density)
pins: 1 VIN1 (power) "The VIN1 pin powers the internal control circuitry for both channels and is monitored by the undervoltage lockout comparator. The VIN1 pin is also connected to the collector of channel 1’s on-chip power NPN switch. Th(See Datasheet)", 2 SW1 "The SW pin is the emitter of the onchip power NPN. At switch-off, the inductor will drive this pin below ground with a high dV/dt. An external Schottky catch diode to ground, close to the SW pin and respective VIN decoupling (See Datasheet)", 3 IND1 (in) "The IND pin is the input to the on-chip sense resistor that measures current flowing in the inductor. When the current in the resistor exceeds the current dictated by the VC pin, the SW latch is held in reset, disabling the (See Datasheet)", 4 VOUT1 (power) "The VOUT pin is the output to the on-chip sense resistor that measures current flowing in the inductor. When the current in the resistor exceeds the current dictated by the VC pin, the SW latch is held in reset, disabling (See Datasheet)", 5 PG1 (oc) "The power good pin is an open-collector output that sinks current when the feedback falls below 90% of its nominal regulating voltage. For VIN1 above 1V, its output state remains true, although during shutdown, VIN1 (See Datasheet)", 6 PG2 (oc) "The power good pin is an open-collector output that sinks current when the feedback falls below 90% of its nominal regulating voltage. For VIN1 above 1V, its output state remains true, although during shutdown, VIN1 (See Datasheet)", 7 VOUT2 (power) "The VOUT pin is the output to the on-chip sense resistor that measures current flowing in the inductor. When the current in the resistor exceeds the current dictated by the VC pin, the SW latch is held in reset, disabling (See Datasheet)", 8 IND2 (in) "The IND pin is the input to the on-chip sense resistor that measures current flowing in the inductor. When the current in the resistor exceeds the current dictated by the VC pin, the SW latch is held in reset, disabling the (See Datasheet)", 9 SW2 "The SW pin is the emitter of the onchip power NPN. At switch-off, the inductor will drive this pin below ground with a high dV/dt. An external Schottky catch diode to ground, close to the SW pin and respective VIN decoupling (See Datasheet)", 10 VIN2 (power) "The VIN2 pin is the collector of channel 2’s on-chip power NPN switch. This pin is independent of VIN1 and may be connected to the same or a separate supply. In either case, high dI/dt edges are present and decoupling t(See Datasheet)", 11 BST2 "The BST pin provides a higher than VIN base drive to the power NPN to ensure a low switch drop. A comparator to VIN imposes a minimum off-time on the SW pin if the BST pin voltage drops too low. Forcing a SW off-time allows (See Datasheet)", 12 SS/TRACK2 (in) "The SS1/2 pins control the softstart and sequence of their respective outputs. A single capacitor from the SS pin to ground determines the output ramp rate. For soft-start and output tracking/sequencing details, see the (See Datasheet)", 13 VC2 "The VC pin is the output of the error amplifier and the input to the peak switch current  comparator. It is normally used for frequency compensation, but can also be used as a current clamp or control loop override. If the (See Datasheet)", 14 FB2 (in) "The FB pin is the negative input to the error amplifier. The output switches regulate this pin to 0.8V, with respect to the exposed ground pad. Bias current flows out of the FB pin.", 15 SHDN (in) "The shutdown pin is used to turn off both channels and control circuitry to reduce quiescent current to a typical value of 9uA. The accurate 1.28V threshold and input current hysteresis can be used as an undervoltage (See Datasheet)", 16 RT/SYNC (in) "This RT/SYNC pin provides two modes of setting the constant switch frequency.", 17 FB1 (in) "The FB pin is the negative input to the error amplifier. The output switches regulate this pin to 0.8V, with respect to the exposed ground pad. Bias current flows out of the FB pin.", 18 VC1 "The VC pin is the output of the error amplifier and the input to the peak switch current  comparator. It is normally used for frequency compensation, but can also be used as a current clamp or control loop override. If the (See Datasheet)", 19 SS/TRACK1 (in) "The SS1/2 pins control the softstart and sequence of their respective outputs. A single capacitor from the SS pin to ground determines the output ramp rate. For soft-start and output tracking/sequencing details, see the (See Datasheet)", 20 BST1 "The BST pin provides a higher than VIN base drive to the power NPN to ensure a low switch drop. A comparator to VIN imposes a minimum off-time on the SW pin if the BST pin voltage drops too low. Forcing a SW off-time allows (See Datasheet)", 21 EP (power) "GND. The Exposed Pad GND pin is the only ground connection for the device. The Exposed Pad should be soldered to a large copper area to reduce thermal resistance. The GND pin is common to both channels and also serves as (See Datasheet)"